# Altium footprint library IR Mosfet.PcbLib: 7 footprints
Each footprint in its own frame and in the unit in brackets; x right, y up, seen from the top. Pads: shape width x height; smd on the part's side, far side on the other; paste and mask are expansions set on the pad; w line width, h text height; cw(c..) or ccw(c..) is an arc to the next point about the centre after c.
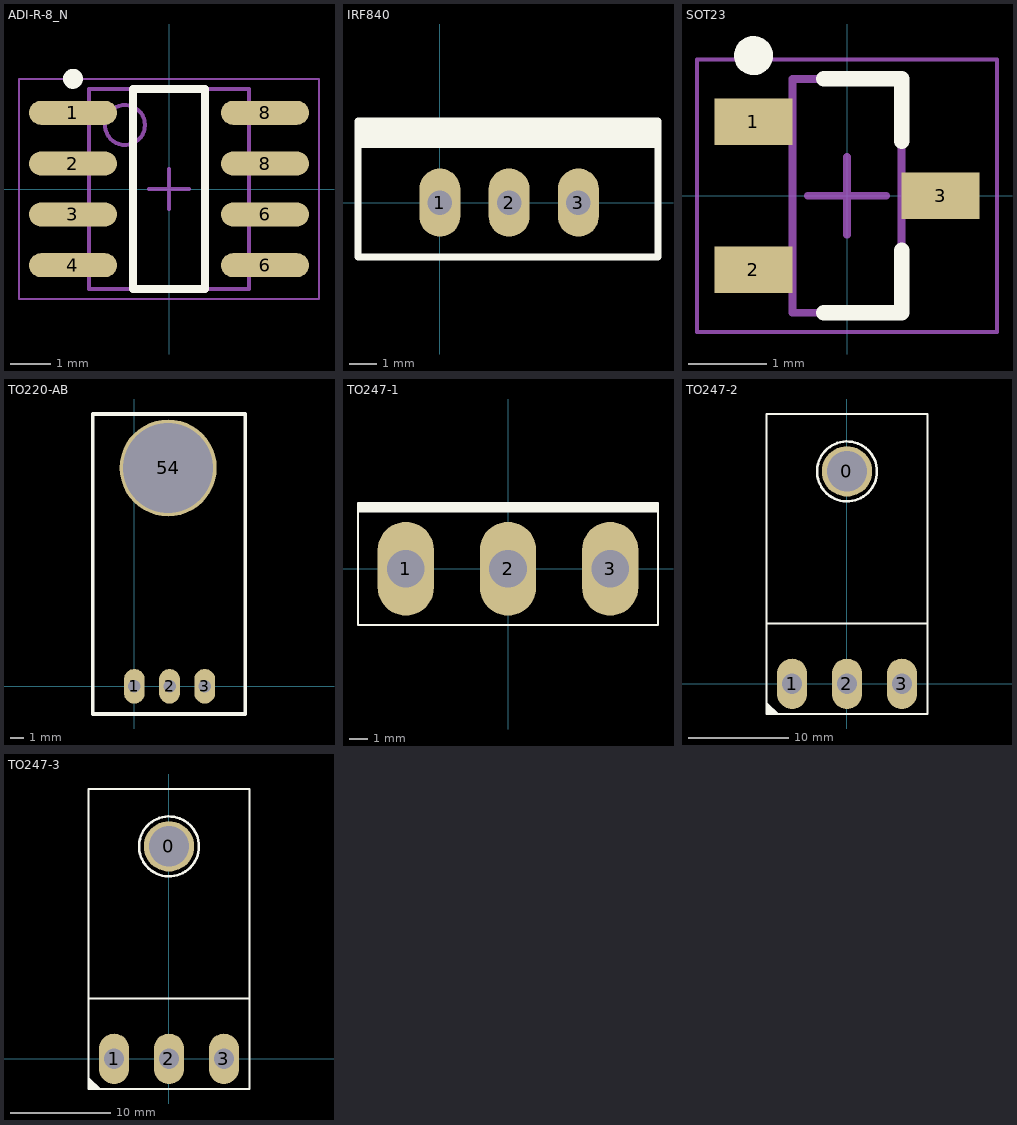
[diagram p0: the footprints below, top view; thin cyan lines are the x and y axes]

## ADI-R-8_N [mm] "SOIC, 8-Leads, Body 4.9x3.9mm, Pitch 1.27mm, IPC Medium Density"
height 1.75
pads (8):
  oval 2.2x0.6 smd: 1(-2.4,1.905) 2(-2.4,0.635) 3(-2.4,-0.635) 4(-2.4,-1.905) 6(2.4,-1.905) 6(2.4,-0.635) 8(2.4,0.635) 8(2.4,1.905)
Top Overlay:
  circle w0.25: c-2.4,2.755 r0.125
  lines w0.2: -0.9,-2.5 0.9,-2.5 0.9,2.5 -0.9,2.5 -0.9,-2.5
Mechanical 13:
  circle w0.1: c-1.1,1.6 r0.5
  lines w0.1: -2,-2.5 2,-2.5 2,2.5 -2,2.5 -2,-2.5
Mechanical 15:
  lines w0.05: -3.75,-2.75 3.75,-2.75 3.75,2.75 -3.75,2.75 -3.75,-2.75
  lines w0.1: -0.5,0 0.5,0 ; 0,-0.5 0,0.5
3D body "SOIC8-3.STEP": height 1.7, standoff 0, extent -3,-2.45 3,2.45

## IRF840 [mm]
pads (3):
  oval 1.5x2.5 hole 0.9: 1(0,0) 2(2.54,0) 3(5.08,0)
Top Overlay:
  rectangle: -3,2 8,3
  lines w0.254: -3,-2 -3,3 8,3 8,-2 -3,-2
3D body "TO-220AB.STEP": height 21.86, standoff -2, extent -2.76,-2.225 7.91,2.605

## SOT23 [mm] "SOT23, 3-Leads, Body 2,90x2,45mm, Pitch 0,95mm, IPC Medium Density"
height 1.1
pads (3):
  rect 1x0.6 smd: 1(-1.2,0.95) 2(-1.2,-0.95) 3(1.2,0)
Top Overlay:
  circle w0.25: c-1.2,1.8 r0.125
  lines w0.2: -0.3,-1.5 0.7,-1.5 0.7,-0.7 ; -0.3,1.5 0.7,1.5 0.7,0.7
Mechanical 13:
  lines w0.1: -0.7,-1.5 -0.7,1.5 0.7,1.5 0.7,-1.5 -0.7,-1.5
Mechanical 15:
  lines w0.05: -1.925,-1.75 -1.925,1.75 1.925,1.75 1.925,-1.75 -1.925,-1.75
  lines w0.1: -0.5,0 0.5,0 ; 0,-0.5 0,0.5
3D body "BAS16.STEP": height 1.09, standoff 0, extent -1.2,-1.397 1.238,1.397

## TO220-AB [mm]
pads (4):
  oval 1.5x2.5 hole 0.9: 1(0,0) 2(2.54,0) 3(5.08,0)
  round 7 hole 6.5: 54(2.438,15.748)
Top Overlay:
  lines w0.254: -3,-2 8,-2 8,19.634 -3,19.634 -3,-2
3D body "to-220-ab-3.step": height 0.71, standoff -8, extent -2.435,-0.457 7.465,19.223

## TO247-1 [mm]
pads (3):
  oval 3x5 hole 2: 1(-5.45,0) 2(0,0) 3(5.45,0)
Top Overlay:
  rectangle: -8,3 8,3.5
  lines w0.1: -8,-3 8,-3 8,3.5 -8,3.5 -8,-3
3D body "TO247-3-21.step": height 28.95, standoff -12.18, extent -7.95,-2.54 7.95,2.56

## TO247-2 [mm]
pads (4):
  round 5 hole 4: 0(0,21.1)
  oval 3x5 hole 2: 1(-5.45,0) 2(0,0) 3(5.45,0)
Top Overlay:
  circle w0.254: c0,21.1 r2.973
  region: -8,-3 -8,-1.9 -7.9,-1.9 -6.8,-3
  lines w0.2: -8,6 8,6 ; -8,-3 8,-3 8,26.8 -8,26.8 -8,-3
3D body "TO-247_bent_leads.step": height 5.9, standoff -6.1, extent -7.95,-0.4 7.95,26.582

## TO247-3 [mm]
pads (4):
  round 5 hole 4: 0(0,21.1)
  oval 3x5 hole 2: 1(-5.45,0) 2(0,0) 3(5.45,0)
Top Overlay:
  circle w0.254: c0,21.1 r2.973
  region: -8,-3 -8,-1.9 -7.9,-1.9 -6.8,-3
  lines w0.2: -8,6 8,6 ; -8,-3 8,-3 8,26.8 -8,26.8 -8,-3
3D body "TO-247H.step": height 5.9, standoff -6, extent -7.7,-0.2 7.8,25.2